# Altium footprint library DIP16-2.54-20.32X5.84MM.PcbLib: 1 footprints
Each footprint in its own frame and in the unit in brackets; x right, y up, seen from the top. Pads: shape width x height; smd on the part's side, far side on the other; paste and mask are expansions set on the pad; w line width, h text height; cw(c..) or ccw(c..) is an arc to the next point about the centre after c.
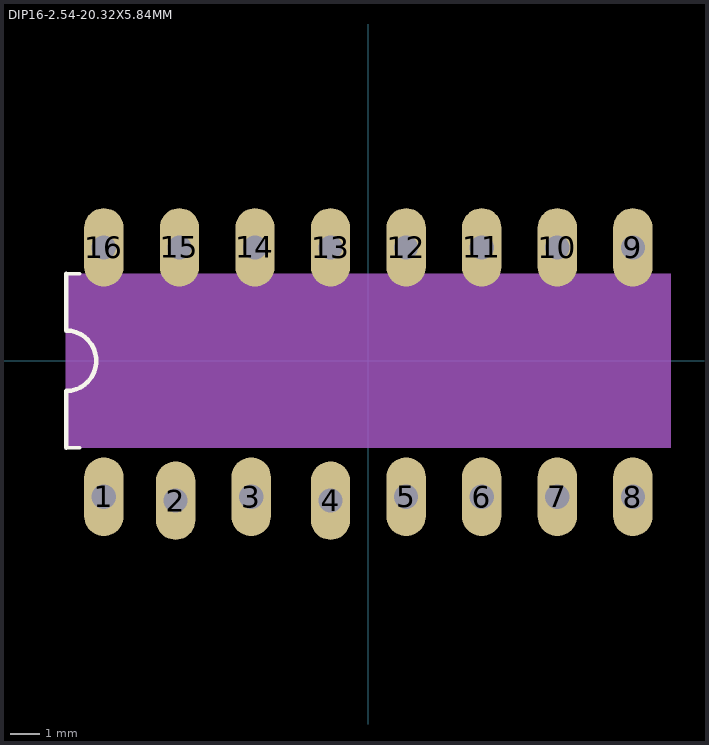
[diagram p0: the footprint, top view; thin cyan lines are the x and y axes]

## DIP16-2.54-20.32X5.84MM [mil]
pads (16):
  oval 52x104 hole 32: 1(-350,-180) 2(-255,-185) 3(-155,-180) 4(-50,-185) 5(50,-180) 6(150,-180) 7(250,-180) 8(350,-180) 9(350,150) 10(250,150) 11(150,150) 12(50,150) 13(-50,150) 14(-150,150) 15(-250,150) 16(-350,150)
Top Overlay:
  lines w5: -400,-115 -381.89,-115 ; -400,115 -381.89,115
  lines w6: -400,-115 -400,-40 ccw(c-400,0) -400,40 -400,115
Mechanical 15:
  region: 400,-115.08 -400.3,-115.08 -400.3,115 400,115
3D body "step_temp.STEP": height 165.35, standoff -130.91, extent -380,-200.88 369.02,170.88